# Altium schematic symbol library C5349327.SchLib: 1 symbol
Pins are listed as number, name and electrical type; pins without a type are passive.

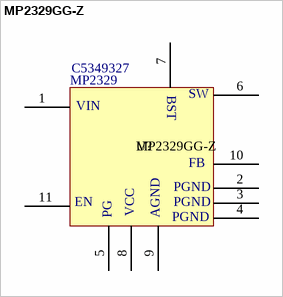
[diagram p0: symbol MP2329GG-Z]

## MP2329GG-Z
designator U?  Name: C5349327
Source: LCSC
footprint QFN-11_L2.0-W2.0-P0.50_MP2384CGG-Z
pins: 1, 2, 3, 4, 5, 6, 7, 8, 9, 10, 11
text: MP2329; BST; SW; VIN; FB; PGND; EN; PG; VCC; AGND